# Altium schematic symbol library 901-9894-RFX.SchLib: 1 symbol
Pins are listed as number, name and electrical type; pins without a type are passive.

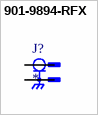
[diagram p0: symbol 901-9894-RFX]

## 901-9894-RFX
designator J?
SMA Connector Plug, Male Pin 50Ohm Through Hole, Right Angle Solder; MF: Amphenol RF; MP: 901-9894-RFX; Purchase-URL: https://pricing.snapeda.com/search/part/901-9894-RFX/?ref=eda; Value: *; SnapEDA_Link: https://www.snapeda.com/parts/901-9894-RFX/Amphenol/view-part/?ref=snap; Package: None; Check_prices: https://www.snapeda.com/parts/901-9894-RFX/Amphenol/view-part/?ref=eda; Price: None; Availability: In Stock
footprint AMPHENOL_901-9894-RFX
pins: 1, 2, 3 2, 4 2, 5 2